# Altium footprint library Nixie Footprints.PcbLib: 4 footprints
Each footprint in its own frame and in the unit in brackets; x right, y up, seen from the top. Pads: shape width x height; smd on the part's side, far side on the other; paste and mask are expansions set on the pad; w line width, h text height; cw(c..) or ccw(c..) is an arc to the next point about the centre after c.
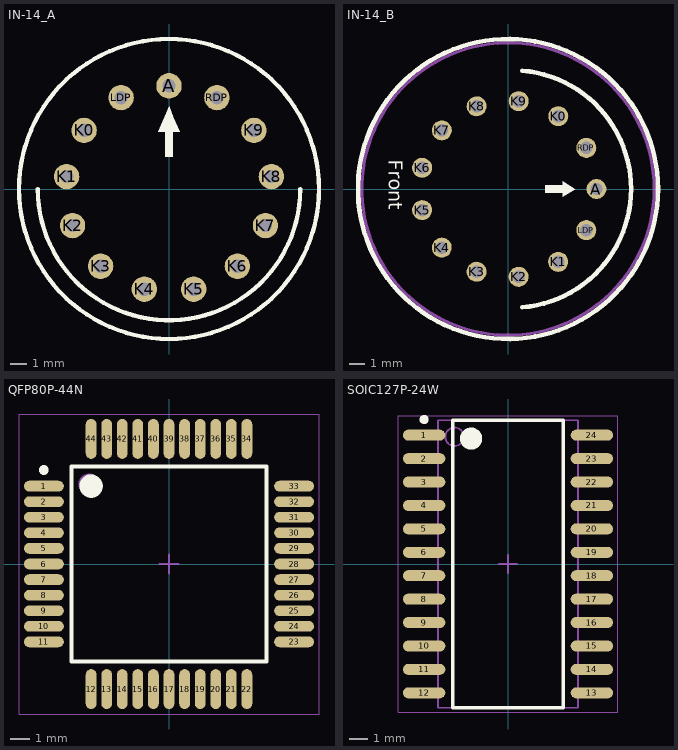
[diagram p0: the footprints below, top view; thin cyan lines are the x and y axes]

## IN-14_A [mil] "IN-14 Russian Nixie Tube"
pads (13):
  round 60 hole 31.5: A(0,243.7) K0(-200.56,138.44) K1(-241.92,29.37) K2(-227.86,-86.42) K3(-161.6,-182.41) K4(-58.32,-236.62) K5(58.32,-236.62) K6(161.6,-182.41) K7(227.86,-86.42) K8(241.92,29.37) K9(200.56,138.44) LDP(-113.25,215.78) RDP(113.25,215.78)
Top Overlay:
  circle w10: c0,0 r354.33
  rectangle: -10,75 10,135
  region: 0,195 10,170 25,135 -25,135
  lines w10: -310,0 ccw(c0,0) 310,0

## IN-14_B [mm]
pads (13):
  round 1.3 hole 0.8 unplated: A(5.75,0) K0(3.267,4.732) K1(3.264,-4.734) K2(0.691,-5.708) K3(-2.041,-5.376) K4(-4.305,-3.812) K5(-5.583,-1.374) K6(-5.583,1.377) K7(-4.303,3.814) K8(-2.038,5.377) K9(0.694,5.708) LDP(5.09,-2.675) RDP(5.091,2.672)
Top Overlay:
  circle w0.3: c0,0 r9.75
  rectangle: 2.413,-0.254 3.556,0.254
  region: 3.556,0.508 3.556,-0.508 4.369,-0.002
  lines w0.3: 0.931,-7.694 ccw(c0.279,0) 0.935,7.693
  text "Front" at -7.767,1.916 h0.9
Mechanical 13:
  circle w0.2: c0,0 r9.5

## QFP80P-44N [mm] "QFP, 44-Leads, Body 10.00x10.00mm, Pitch 0.80mm, IPC Medium Density"
height 2.35
pads (44):
  oval 2.05x0.55 smd: 1(-6.425,4) 2(-6.425,3.2) 3(-6.425,2.4) 4(-6.425,1.6) 5(-6.425,0.8) 6(-6.425,0) 7(-6.425,-0.8) 8(-6.425,-1.6) 9(-6.425,-2.4) 10(-6.425,-3.2) 11(-6.425,-4) 23(6.425,-4) 24(6.425,-3.2) 25(6.425,-2.4) 26(6.425,-1.6) 27(6.425,-0.8) 28(6.425,0) 29(6.425,0.8) 30(6.425,1.6) 31(6.425,2.4) 32(6.425,3.2) 33(6.425,4)
  oval 0.55x2.05 smd: 12(-4,-6.425) 13(-3.2,-6.425) 14(-2.4,-6.425) 15(-1.6,-6.425) 16(-0.8,-6.425) 17(0,-6.425) 18(0.8,-6.425) 19(1.6,-6.425) 20(2.4,-6.425) 21(3.2,-6.425) 22(4,-6.425) 34(4,6.425) 35(3.2,6.425) 36(2.4,6.425) 37(1.6,6.425) 38(0.8,6.425) 39(0,6.425) 40(-0.8,6.425) 41(-1.6,6.425) 42(-2.4,6.425) 43(-3.2,6.425) 44(-4,6.425)
Top Overlay:
  circle w0.6: c-4,4 r0.3
  circle w0.25: c-6.425,4.825 r0.125
  lines w0.2: -5,-5 5,-5 5,5 -5,5 -5,-5
Mechanical 13:
  circle w0.1: c-4.1,4.1 r0.5
  lines w0.1: -5,-5 5,-5 5,5 -5,5 -5,-5
Mechanical 15:
  lines w0.05: -7.7,-7.7 7.7,-7.7 7.7,7.7 -7.7,7.7 -7.7,-7.7
  lines w0.1: -0.5,0 0.5,0 ; 0,-0.5 0,0.5
3D body "QFP80P1390X1390-44N.step": height 2.6, standoff 0, extent -6.96,-6.96 6.96,6.96

## SOIC127P-24W [mm] "SOP, 24-Leads, Body 15.40x7.50mm, Pitch 1.27mm, IPC Medium Density"
height 2.65
pads (24):
  oval 2.3x0.6 smd: 1(-4.55,6.985) 2(-4.55,5.715) 3(-4.55,4.445) 4(-4.55,3.175) 5(-4.55,1.905) 6(-4.55,0.635) 7(-4.55,-0.635) 8(-4.55,-1.905) 9(-4.55,-3.175) 10(-4.55,-4.445) 11(-4.55,-5.715) 12(-4.55,-6.985) 13(4.55,-6.985) 14(4.55,-5.715) 15(4.55,-4.445) 16(4.55,-3.175) 17(4.55,-1.905) 18(4.55,-0.635) 19(4.55,0.635) 20(4.55,1.905) 21(4.55,3.175) 22(4.55,4.445) 23(4.55,5.715) 24(4.55,6.985)
Top Overlay:
  circle w0.6: c-2,6.8 r0.3
  circle w0.25: c-4.55,7.835 r0.125
  lines w0.2: -3,-7.8 3,-7.8 3,7.8 -3,7.8 -3,-7.8
Mechanical 13:
  circle w0.1: c-2.9,6.9 r0.5
  lines w0.1: -3.8,-7.8 3.8,-7.8 3.8,7.8 -3.8,7.8 -3.8,-7.8
Mechanical 15:
  lines w0.05: -5.95,-8.05 5.95,-8.05 5.95,8.05 -5.95,8.05 -5.95,-8.05
  lines w0.1: -0.5,0 0.5,0 ; 0,-0.5 0,0.5
3D body "SOIC127P1047X264-24N.step": height 2.79, standoff 0, extent -5.263,-7.925 5.263,7.925